# Altium schematic symbol library Backplane_Board.SchLib: 2 symbols
Pins are listed as number, name and electrical type; pins without a type are passive.

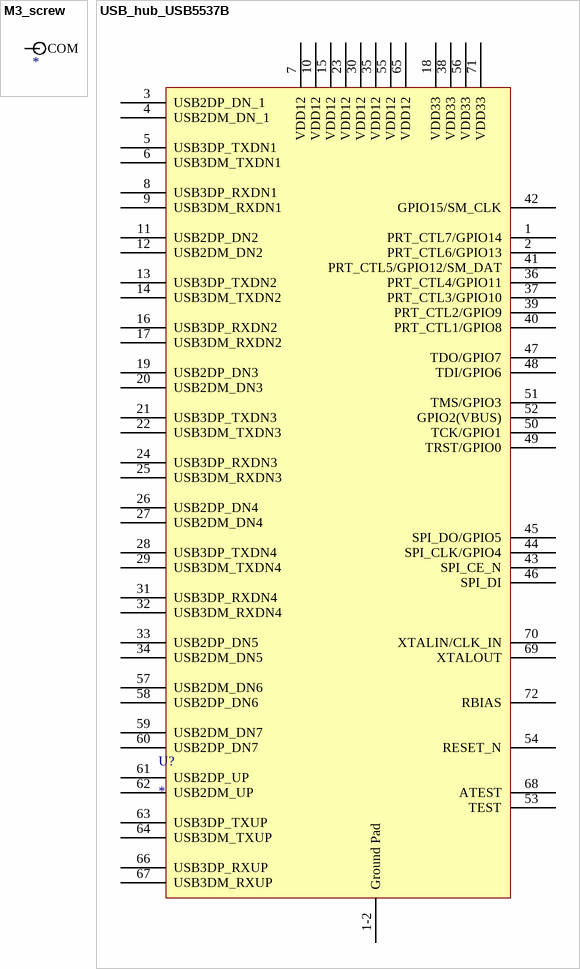
[diagram p0: symbols M3_screw to USB_hub_USB5537B]

## M3_screw
designator TH?
footprint m3screw
footprint m3_w_tol_1p9 (M3 with 1 axis 1.9mm tolerance)
pins: 0 COM

## USB_hub_USB5537B
designator U?
https://media.digikey.com/pdf/Data%20Sheets/Microchip%20PDFs/USB5537B.pdf
footprint QFN50P1000X1000X100_HS-73N (QFN, 72-Leads, Body 10.00x10.00mm, Pitch 0.50mm, Thermal Pad 6.00x6.00mm, IPC Medium Density)
pins: 1 PRT_CTL7/GPIO14, 1-2 Ground Pad, 2 PRT_CTL6/GPIO13, 3 USB2DP_DN_1, 4 USB2DM_DN_1, 5 USB3DP_TXDN1, 6 USB3DM_TXDN1, 7 VDD12, 8 USB3DP_RXDN1, 9 USB3DM_RXDN1, 10 VDD12, 11 USB2DP_DN2, 12 USB2DM_DN2, 13 USB3DP_TXDN2, 14 USB3DM_TXDN2, 15 VDD12, 16 USB3DP_RXDN2, 17 USB3DM_RXDN2, 18 VDD33, 19 USB2DP_DN3, 20 USB2DM_DN3, 21 USB3DP_TXDN3, 22 USB3DM_TXDN3, 23 VDD12, 24 USB3DP_RXDN3, 25 USB3DM_RXDN3, 26 USB2DP_DN4, 27 USB2DM_DN4, 28 USB3DP_TXDN4, 29 USB3DM_TXDN4, 30 VDD12, 31 USB3DP_RXDN4, 32 USB3DM_RXDN4, 33 USB2DP_DN5, 34 USB2DM_DN5, 35 VDD12, 36 PRT_CTL4/GPIO11, 37 PRT_CTL3/GPIO10, 38 VDD33, 39 PRT_CTL2/GPIO9, 40 PRT_CTL1/GPIO8, 41 PRT_CTL5/GPIO12/SM_DAT, 42 GPIO15/SM_CLK, 43 SPI_CE_N, 44 SPI_CLK/GPIO4, 45 SPI_DO/GPIO5, 46 SPI_DI, 47 TDO/GPIO7, 48 TDI/GPIO6, 49 TRST/GPIO0, 50 TCK/GPIO1, 51 TMS/GPIO3, 52 GPIO2(VBUS), 53 TEST, 54 RESET_N, 55 VDD12, 56 VDD33, 57 USB2DM_DN6, 58 USB2DP_DN6, 59 USB2DM_DN7, 60 USB2DP_DN7, 61 USB2DP_UP, 62 USB2DM_UP, 63 USB3DP_TXUP, 64 USB3DM_TXUP, 65 VDD12, 66 USB3DP_RXUP, 67 USB3DM_RXUP, 68 ATEST, 69 XTALOUT, 70 XTALIN/CLK_IN, 71 VDD33, 72 RBIAS